# EAGLE library part W25Q32JVXGIQ_TR (library W25Q32JVXGIQ_TR)
NOR Flash Serial (SPI, Dual SPI, Quad SPI) 3V/3.3V 32M-bit 4M x 8 6ns 8-Pin XSON EP T/R Source: Datasheet <http://www.winbond.com/resource-files/w25q32jv spi revf 05112017.pdf>
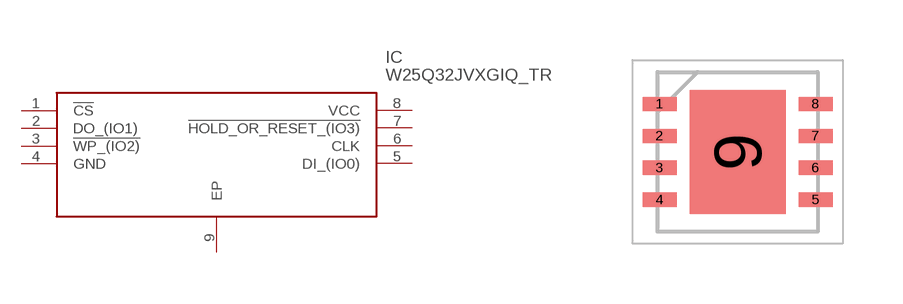
[diagram p0: symbol with the pads of SON80P400X400X50-9N; footprint SON80P400X400X50-9N]

Designator prefix IC

## W25Q32JVXGIQ_TR (Description: NOR Flash Serial (SPI, Dual SPI, Quad SPI) 3V/3.3V 32M-bit 4M x 8 6ns 8-Pin XSON EP T/R; Height: 0.5mm; Manufacturer_Name: Winbond; Manufacturer_Part_Number: W25Q32JVXGIQ TR; Mouser_Part_Number: 454-W25Q32JVXGIQTR; Mouser_Price-Stock: https://www.mouser.co.uk/ProductDetail/Winbond/W25Q32JVXGIQ-TR?qs=qSfuJ%252Bfl%2Fd71%2Fr1STvAXaQ%3D%3D)  [SON80P400X400X50-9N]
1  !CS
2  DO_(IO1)
3  !WP_(IO2)
4  GND
5  DI_(IO0)
6  CLK
7  !HOLD_OR_RESET_(IO3)
8  VCC
9  EP

## Footprint SON80P400X400X50-9N (pad centres in mm)
8-Pad XSON 4x4x0
smd 0.85 x 0.35: 1 -1.95,1.2; 2 -1.95,0.4; 3 -1.95,-0.4; 4 -1.95,-1.2; 5 1.95,-1.2; 6 1.95,-0.4; 7 1.95,0.4; 8 1.95,1.2
smd 2.4 x 3.1: 9 0,0